# Altium schematic symbol library Transformers.SchLib: 2 symbols
Pins are listed as number, name and electrical type; pins without a type are passive.

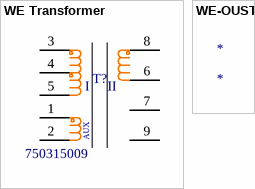
[diagram p0: symbols WE Transformer to WE-OUST]

## WE Transformer
designator T?  value 750315009  (hidden comment: *)
WE Transformer; Catalog: WE; Price: *
pins: 1, 2, 3, 4, 5, 6, 7, 8, 9
text: I; II; AUX

## WE-OUST
designator *